# Altium schematic symbol library TPS53014.SchLib: 1 symbol
Pins are listed as number, name and electrical type; pins without a type are passive.

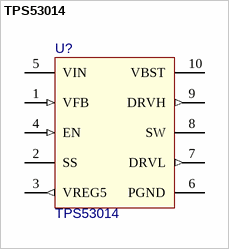
[diagram p0: symbol TPS53014]

## TPS53014
designator U?
Single Synchronous Step-down Controller for Low Voltage Power Rails; value: TPS53014
footprint TSSOP-10 (Footprint not found)
pins: 1 VFB (in), 2 SS, 3 VREG5 (out), 4 EN (in), 5 VIN, 6 PGND (power), 7 DRVL (out), 8 SW, 9 DRVH (out), 10 VBST